# Altium footprint library leds.PcbLib: 51 footprints (part 1 of 4)
Each footprint in its own frame and in the unit in brackets; x right, y up, seen from the top. Pads: shape width x height; smd on the part's side, far side on the other; paste and mask are expansions set on the pad; w line width, h text height; cw(c..) or ccw(c..) is an arc to the next point about the centre after c.
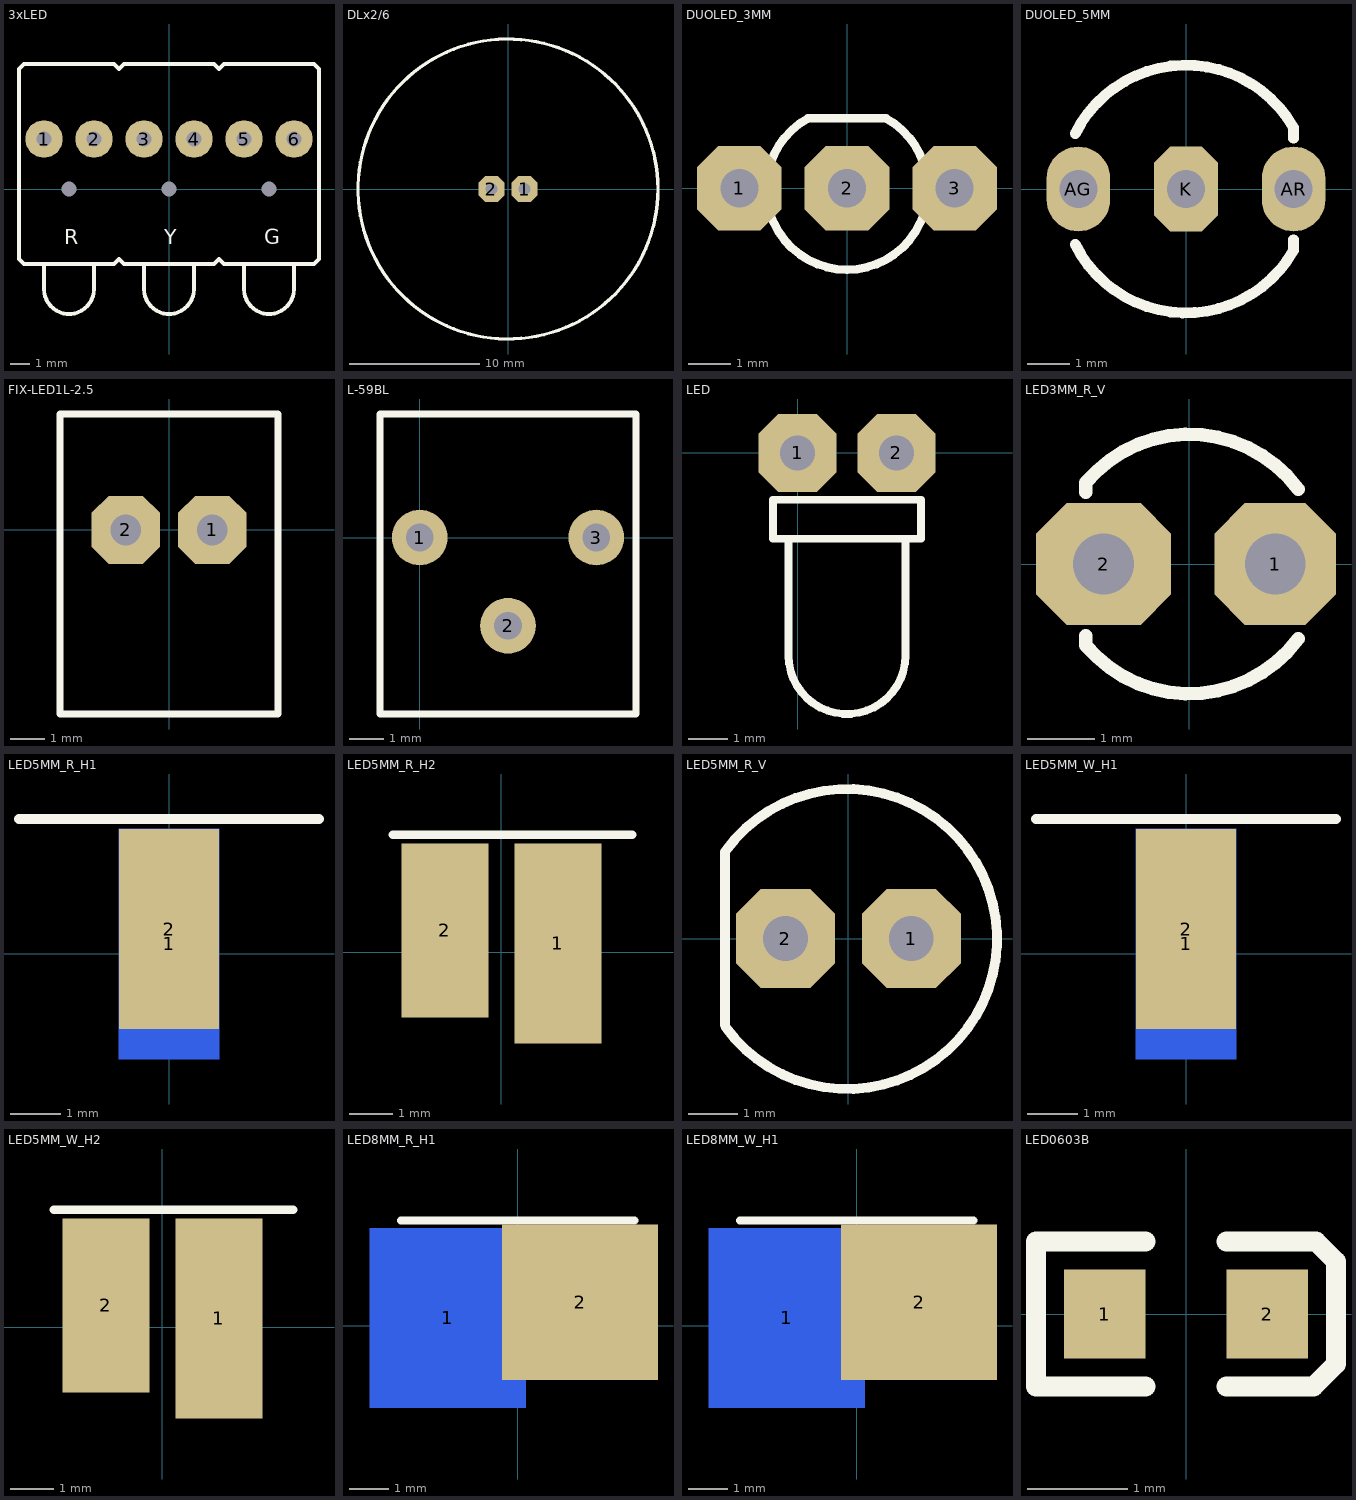
[diagram p0: the footprints below, top view; thin cyan lines are the x and y axes]

## 3xLED [mm]
pads (9):
  round 1.9 hole 0.762: 1(-6.35,2.54) 2(-3.81,2.54) 3(-1.27,2.54) 4(1.27,2.54) 5(3.81,2.54) 6(6.35,2.54)
  round 0 hole 0.762: 7(-5.08,0) 8(0,0) 9(5.08,0)
Top Overlay:
  lines w0.2: -6.35,-3.81 -6.35,-5.08 ccw(c-5.08,-5.08) -3.81,-5.08 -3.81,-3.81 ; -1.27,-3.81 -1.27,-5.08 ccw(c0,-5.08) 1.27,-5.08 1.27,-3.81 ; 3.81,-3.81 3.81,-5.08 ccw(c5.08,-5.08) 6.35,-5.08 6.35,-3.81 ; -7.62,-3.556 -7.62,6.096 -7.366,6.35 -2.794,6.35 -2.54,6.096 -2.286,6.35 2.286,6.35 2.54,6.096 2.794,6.35 7.366,6.35 7.62,6.096 7.62,-3.556 7.366,-3.81 3.048,-3.81 2.794,-3.81 2.54,-3.556 2.286,-3.81 -2.286,-3.81 -2.54,-3.556 -2.794,-3.81 -7.366,-3.81 -7.62,-3.556
  text "G" at 4.826,-2.794 h0.76
  text "Y" at -0.254,-2.794 h0.76
  text "R" at -5.334,-2.794 h0.76

## DLx2/6 [mm] "Kingbright 20mm BIG LAMPS"
pads (2):
  oct 2x2 hole 0.9: 1(1.27,0) 2(-1.27,0)
Top Overlay:
  circle w0.254: c0,0 r11.5
3D body "DLA-6.STEP": height 13.5, standoff -4, extent -11.5,-11.42 11.4,11.421

## DUOLED_3MM [mm] "Dual LED"
height 7
pads (3):
  oct 2x2 hole 0.9: 1(-2.54,0) 2(0,0) 3(2.54,0)
Top Overlay:
  lines w0.2: -0.924,1.648 ccw(c0,-0.018) 0.924,1.648 ; -0.914,1.651 0.914,1.651

## DUOLED_5MM [mm]
pads (3):
  oval 1.5x2 hole 0.9: AG(-2.54,0) AR(2.54,0)
  oct 1.5x2 hole 0.9: K(0,0)
Top Overlay:
  lines w0.152: -2.388,-0.864 cw(c0,0) -2.388,0.864
  lines w0.254: -2.616,-1.308 ccw(c0,0) 2.541,-1.448 ; -2.615,1.308 cw(c0,0) 2.54,1.448 2.54,1.2 ; 2.54,-1.448 2.54,-1.2

## FIX-LED1L-2.5 [mm]
pads (2):
  oct 2x2 hole 0.9: 1(1.27,0) 2(-1.27,0)
Top Overlay:
  lines w0.2: -3.2,-5.4 -3.2,3.4 3.2,3.4 3.2,-5.4 -3.2,-5.4
3D body "red.stp": height 6, standoff 0, extent -3,-10.2 2.5,3.245
3D body: height 3.8, standoff 0, extent -3.2,3 3.2,3.3
3D body: height 4, standoff 0, extent -3.2,2.7 3.2,3
3D body: height 4.2, standoff 0, extent -3.2,2.4 3.2,2.7
3D body: height 4.4, standoff 0, extent -3.2,2.1 3.2,2.4
3D body: height 4.6, standoff 0, extent -3.2,1.8 3.2,2.1
3D body: height 4.8, standoff 0, extent -3.2,1.5 3.2,1.8
3D body: height 5, standoff 0, extent -3.2,1.2 3.2,1.5
3D body: height 5.2, standoff 0, extent -3.2,0.9 3.2,1.2
3D body: height 5.4, standoff 0, extent -3.2,0.6 3.2,0.9
3D body: height 5.6, standoff 0, extent -3.2,0.3 3.2,0.6
3D body: height 5.8, standoff 0, extent -3.2,0 3.2,0.3
3D body: height 6, standoff 0, extent -3.2,-0.3 3.2,0
3D body: height 6.2, standoff 0, extent -3.2,-5.4 3.2,-0.3

## L-59BL [mm] "KingBright T-1 3/4 (5mm) BI-COLOR RIGHT ANGLE  LED INDICATOR"
height 7.24
pads (3):
  round 1.6 hole 0.8: 1(0,0) 2(2.54,-2.54) 3(5.08,0)
Top Overlay:
  lines w0.2: -1.143,-5.08 6.223,-5.08 6.223,3.556 -1.143,3.556 -1.143,-5.08
3D body "User Library-LED L-59.step": height 7.24, standoff 0, extent -1.08,-10.58 6.16,3.56

## LED [mm] "LED"
height 4
pads (2):
  oct 2x2 hole 0.9: 1(0,0) 2(2.54,0)
Top Overlay:
  lines w0.2: -0.23,-2.2 -0.23,-5.2 ccw(c1.27,-5.2) 2.77,-5.2 2.77,-2.2 ; -0.63,-2.2 -0.63,-1.2 3.17,-1.2 3.17,-2.2 -0.63,-2.2

## LED3MM_R_V [mm] "LED"
height 7
pads (2):
  oct 1.8x1.8 hole 0.9: 1(1.27,0)
  oct 2x1.8 hole 0.9: 2(-1.27,0)
Top Overlay:
  lines w0.2: -1.536,-1.064 -1.536,-1.2 ccw(c0,0.08) 1.609,-1.107 ; -1.536,1.064 -1.536,1.2 cw(c0,-0.08) 1.609,1.107
3D body "baza_diod_3mm.STEP": height 5.5, standoff -3, extent -1.6,-1.9 1.9,1.9

## LED5MM_R_H1 [mm] "LED"
pads (2):
  rect 2x4.6 smd far side: 1(0,0.2)
  rect 2x4 smd: 2(0,0.5)
Top Overlay:
  lines w0.2: -3,2.7 3,2.7
3D body "red.stp": height 1.5, standoff -4, extent -3.098,-1.8 2.898,11.645

## LED5MM_R_H2 [mm] "LED"
pads (2):
  rect 2x4.6 smd: 1(1.3,0.2)
  rect 2x4 smd: 2(-1.3,0.5)
Top Overlay:
  lines w0.2: -2.5,2.7 3,2.7
3D body "red.stp": height 3.3, standoff -2.7, extent -2.5,-1.8 3,11.645

## LED5MM_R_V [mm] "LED"
height 7
pads (2):
  oct 2x2 hole 0.9: 1(1.27,0) 2(-1.27,0)
Top Overlay:
  lines w0.2: -2.495,-1.75 -2.495,1.75 ; -2.475,-1.794 ccw(c-0.028,-0.01) -2.475,1.775
3D body "User Library-LED5ON-Red.step": height 8.5, standoff -5, extent -2.5,-3 3,3

## LED5MM_W_H1 [mm] "LED"
pads (2):
  rect 2x4.6 smd far side: 1(0,0.2)
  rect 2x4 smd: 2(0,0.5)
Top Overlay:
  lines w0.2: -3,2.7 3,2.7
3D body "white.stp": height 1.5, standoff -4, extent -2.998,-1.8 2.998,11.645

## LED5MM_W_H2 [mm] "LED"
pads (2):
  rect 2x4.6 smd: 1(1.3,0.2)
  rect 2x4 smd: 2(-1.3,0.5)
Top Overlay:
  lines w0.2: -2.5,2.7 3,2.7
3D body "white.stp": height 3.3, standoff -2.7, extent -2.5,-1.8 3,11.645

## LED8MM_R_H1 [mm] "LED"
pads (2):
  rect 4x4.6 smd far side: 1(-1.8,0.2)
  rect 4x4 smd: 2(1.6,0.6)
Top Overlay:
  lines w0.2: -3,2.7 3,2.7
3D body "red.stp": height 3.03, standoff -5.5, extent -4.897,-0.8 4.097,14.2

## LED8MM_W_H1 [mm] "LED"
pads (2):
  rect 4x4.6 smd far side: 1(-1.8,0.2)
  rect 4x4 smd: 2(1.6,0.6)
Top Overlay:
  lines w0.2: -3,2.7 3,2.7
3D body "white.stp": height 3.03, standoff -5.5, extent -4.497,-1.3 4.497,13.7

## LED0603B [mil]
pads (2):
  rect 32x35 smd: 1(-32,0) 2(32,0)
Top Overlay:
  lines w7.87: -16,-28.54 -59.06,-28.54 -59.06,28.54 -16,28.54 ; 16,-28.54 50.2,-28.54 59.06,-19.69 59.06,20.67 51.18,28.54 16,28.54
3D body "User Library-led_0603-blue.step": height 23.62, standoff 0, extent -31.89,-15.75 31.89,15.75